# Altium schematic symbol library IRL530PBF.SchLib: 1 symbol
Pins are listed as number, name and electrical type; pins without a type are passive.

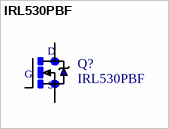
[diagram p0: symbol IRL530PBF]

## IRL530PBF
designator Q?
Single N-Channel 100 V 0.16 Ohms Flange Mount Power Mosfet - TO-220-3; MF: Vishay; Availability: Good; SnapEDA_Link: https://www.snapeda.com/parts/IRL530PBF/Vishay%20Siliconix/view-part/?ref=snap; Price: 0.91 USD; Package: TO-220 Vishay; MP: IRL530PBF; Value: *
footprint TO220V
pins: 1 G, 2 D, 3 S